# Altium footprint library PCB - LED - OSRAM GW J9 LHS2.4M.PCBLIB: 1 footprints
Each footprint in its own frame and in the unit in brackets; x right, y up, seen from the top. Pads: shape width x height; smd on the part's side, far side on the other; paste and mask are expansions set on the pad; w line width, h text height; cw(c..) or ccw(c..) is an arc to the next point about the centre after c.
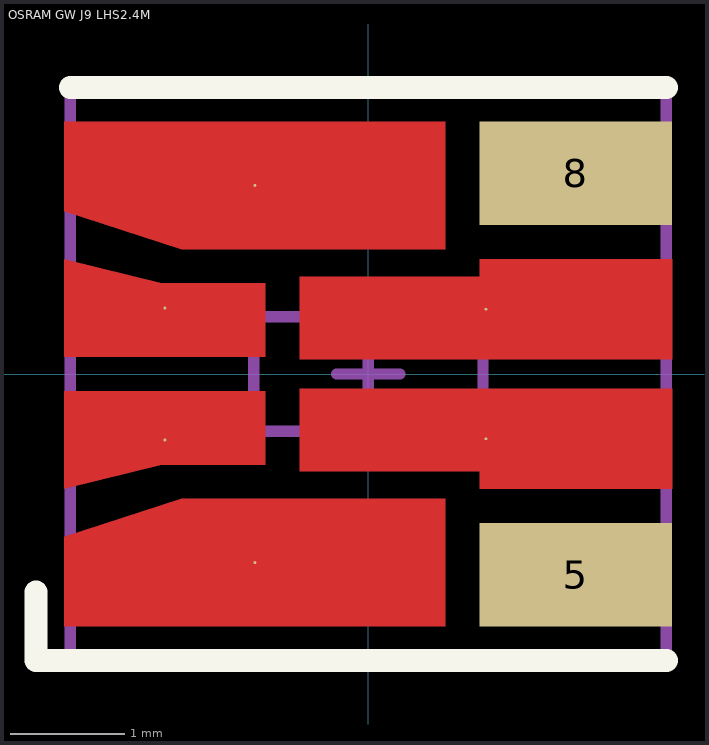
[diagram p0: the footprint, top view; thin cyan lines are the x and y axes]

## OSRAM GW J9 LHS2.4M [mm] "OSRAM RGBW LED"
height 1.2
pads (8):
  round 0.025 smd: 1(-0.99,1.645) 2(-1.775,0.575) 3(-1.775,-0.575) 4(-0.99,-1.645) 6(1.025,-0.565) 7(1.025,0.565)
  rect 1.68x0.9 smd: 5(1.81,-1.75) 8(1.81,1.75)
Top Layer:
  region: -2.65,-1.42 -1.63,-1.09 0.67,-1.09 0.67,-2.2 -2.65,-2.2
  region: -2.65,1.42 -1.63,1.09 0.67,1.09 0.67,2.2 -2.65,2.2
  region: -2.65,-0.15 -0.9,-0.15 -0.9,-0.79 -1.8,-0.79 -2.65,-1
  region: -2.65,0.15 -0.9,0.15 -0.9,0.79 -1.8,0.79 -2.65,1
  region: -0.6,-0.13 -0.6,-0.85 0.97,-0.85 0.97,-1 2.65,-1 2.65,-0.13
  region: -0.6,0.13 -0.6,0.85 0.97,0.85 0.97,1 2.65,1 2.65,0.13
Top Overlay:
  lines w0.2: -2.9,-1.9 -2.9,-2.5 2.6,-2.5 ; -2.6,2.5 2.6,2.5
Mechanical 13:
  lines w0.1: -2.6,-2.5 -2.6,2.5 2.6,2.5 2.6,-2.5 -2.6,-2.5
Mechanical 15:
  lines w0.1: -0.275,0 0.275,0 ; 0,-0.275 0,0.275 ; -1,-0.5 -1,0.5 1,0.5 1,-0.5 -1,-0.5
3D body "OSRAM GW J9 LHS2.4M.step": height 1.2, standoff -0.01, extent -2.6,-2.5 2.6,2.5